# EAGLE library part MN15439A (library MN15439A)
This VF glass includes 3x 286 bit serial shift registers, PWM decoder and latched driver which connects to the anode and grid electrodes. An external host is required to provide a multiplexing data stream to refresh the display. The signal inputs can be connected to the ports of a CMOS microprocessor. The a.c. filament supply (F1, F2) can be derived from a source of 10KHz to 200KHz. Consult our application notes for further information.
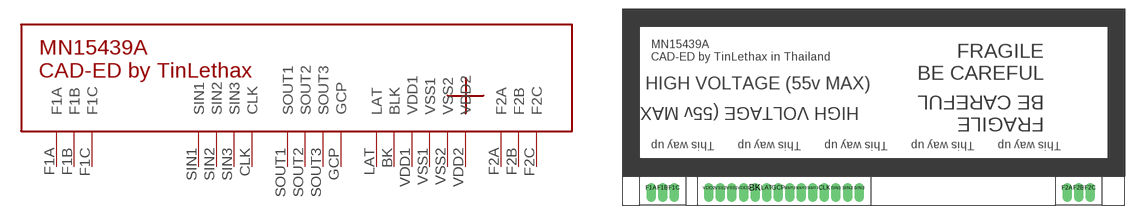
[diagram p0: symbol with the pads of THT-20; footprint THT-20]

Designator prefix -

## MN15439A (PARTNO: MN15439A)  [THT-20]
BK  BLK
CLK  CLK
F1A  F1A
F1B  F1B
F1C  F1C
F2A  F2A
F2B  F2B
F2C  F2C
GCP  GCP
LAT  LAT
SIN1  SIN1
SIN2  SIN2
SIN3  SIN3
SOUT1  SOUT1
SOUT2  SOUT2
SOUT3  SOUT3
VDD1  VDD1
VDD2  VDD2
VSS1  VSS1
VSS2  VSS2

## Footprint THT-20 (pad centres in mm)
THT-20 through hole mounting 20 pin
drill 1 pad 1.676 offset: BK -21,-17; CLK -9,-17; F1A -39,-17; F1B -37,-17; F1C -35,-17; F2A 33,-17; F2B 35,-17; F2C 37,-17; GCP -17,-17; LAT -19,-17; SIN1 -7,-17; SIN2 -5,-17; SIN3 -3,-17; SOUT1 -11,-17; SOUT2 -13,-17; SOUT3 -15,-17; VDD1 -23,-17; VDD2 -29,-17; VSS1 -25,-17; VSS2 -27,-17